# EAGLE library part WT2003S (library Deegou_IC)
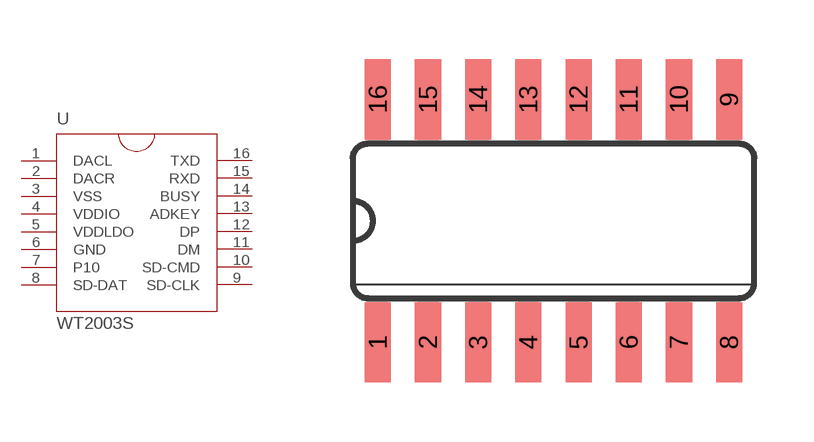
[diagram p1: symbol with the pads of SO16; footprint SO16]

Designator prefix U

## WT2003S  [SO16]
1  DACL
2  DACR
3  VSS
4  VDDIO
5  VDDLDO
6  GND
7  P10
8  SD-DAT
9  SD-CLK
10  SD-CMD
11  DM
12  DP
13  ADKEY
14  BUSY
15  RXD
16  TXD

## Footprint SO16 (pad centres in mm)
Small Outline package 150 mil
smd 0.66 x 2.032: 1 -4.445,-3.073; 2 -3.175,-3.073; 3 -1.905,-3.073; 4 -0.635,-3.073; 5 0.635,-3.073; 6 1.905,-3.073; 7 3.175,-3.073; 8 4.445,-3.073; 9 4.445,3.073; 10 3.175,3.073; 11 1.905,3.073; 12 0.635,3.073; 13 -0.635,3.073; 14 -1.905,3.073; 15 -3.175,3.073; 16 -4.445,3.073